# EAGLE library part CK1049 (library CK1049)
Rotary wafer switch,metric,BBM,1P 12way 150 mA@ 250V, 12 Way Rotary Switch, 250 V ac, 250 V dc Source: Datasheet <https://www.mouser.co.uk/datasheet/2/242/CK-681.pdf>
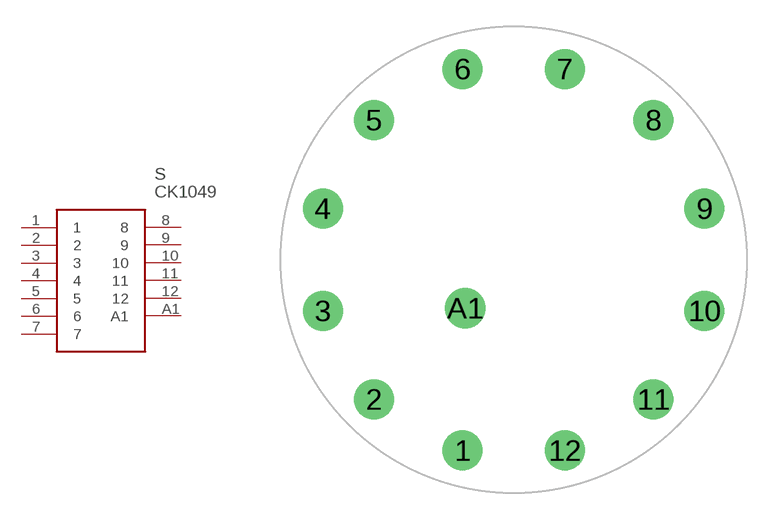
[diagram p0: symbol with the pads of CK1059; footprint CK1059]

Designator prefix S

## CK1049 (Description: Rotary wafer switch,metric,BBM,1P 12way 150 mA@ 250V, 12 Way Rotary Switch, 250 V ac, 250 V dc; Height: mm; Manufacturer_Name: Lorlin; Manufacturer_Part_Number: CK1049; Mouser_Part_Number: 105-CK1049; Mouser_Price-Stock: https://www.mouser.co.uk/ProductDetail/Lorlin/CK1049?qs=O6bH0TOr7K9VZeVQd5au3Q%3D%3D)  [CK1059]
1  1
2  2
3  3
4  4
5  5
6  6
7  7
8  8
9  9
10  10
11  11
12  12
A1  A1

## Footprint CK1059 (pad centres in mm)
CK1059
drill 1.5 pad 2.25: 1 0,0; 2 -4.976,2.873; 3 -7.849,7.849; 4 -7.849,13.595; 5 -4.976,18.571; 6 0,21.444; 7 5.746,21.444; 8 10.722,18.571; 9 13.595,13.595; 10 13.595,7.849; 11 10.722,2.873; 12 5.746,0; A1 0.151,7.999